# Altium integrated library WE-TFC_rev15a.intlib: 7 symbols
Pins are listed as number, name and electrical type; pins without a type are passive.

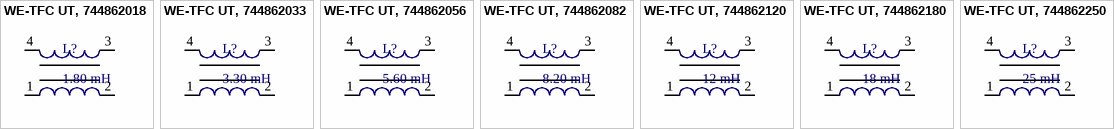
[diagram p0: symbols WE-TFC UT, 744862018 to WE-TFC UT, 744862250]

## WE-TFC UT, 744862018
designator L?, comment 1.80 mH
PTH-Common Mode Power Line Choke WE-TFC, L=1.8 mH; partNo: 744862018; Manufacturer: Würth Elektronik eiSos GmbH; Inductance: 1.80 mH; ComponentLink1Description: Manufacturer; ComponentLink1URL: http://www.we-online.de; Created by: Christin Zierenner; Created Date: March 2012; ComponentLink2Description: Datasheet; ComponentLink2URL: http://www.we-online.de/katalog/media/pdf/744862018.pdf
footprint WE-TFC (PTH Inductor, 4-Leads, Body 17x11mm)
pins: 1, 2, 3, 4

## WE-TFC UT, 744862033
designator L?, comment 3.30 mH
PTH-Common Mode Power Line Choke WE-TFC, L=3.30 mH; partNo: 744862033; Manufacturer: Würth Elektronik eiSos GmbH; Inductance: 3.30 mH; ComponentLink1Description: Manufacturer; ComponentLink1URL: http://www.we-online.de; Created by: Christin Zierenner; Created Date: March 2012; ComponentLink2Description: Datasheet; ComponentLink2URL: http://www.we-online.de/katalog/media/pdf/744862033.pdf
footprint WE-TFC (PTH Inductor, 4-Leads, Body 17x11mm)
pins: 1, 2, 3, 4

## WE-TFC UT, 744862056
designator L?, comment 5.60 mH
PTH-Common Mode Power Line Choke WE-TFC, L=5.60 mH; partNo: 744862056; Manufacturer: Würth Elektronik eiSos GmbH; Inductance: 5.60 mH; ComponentLink1Description: Manufacturer; ComponentLink1URL: http://www.we-online.de; Created by: Christin Zierenner; Created Date: March 2012; ComponentLink2Description: Datasheet; ComponentLink2URL: http://www.we-online.de/katalog/media/pdf/744862056.pdf
footprint WE-TFC (PTH Inductor, 4-Leads, Body 17x11mm)
pins: 1, 2, 3, 4

## WE-TFC UT, 744862082
designator L?, comment 8.20 mH
PTH-Common Mode Power Line Choke WE-TFC, L=8.20 mH; partNo: 744862082; Manufacturer: Würth Elektronik eiSos GmbH; Inductance: 8.20 mH; ComponentLink1Description: Manufacturer; ComponentLink1URL: http://www.we-online.de; Created by: Christin Zierenner; Created Date: March 2012; ComponentLink2Description: Datasheet; ComponentLink2URL: http://www.we-online.de/katalog/media/pdf/744862082.pdf
footprint WE-TFC (PTH Inductor, 4-Leads, Body 17x11mm)
pins: 1, 2, 3, 4

## WE-TFC UT, 744862120
designator L?, comment 12 mH
PTH-Common Mode Power Line Choke WE-TFC, L=12 mH; partNo: 744862120; Manufacturer: Würth Elektronik eiSos GmbH; Inductance: 12 mH; ComponentLink1Description: Manufacturer; ComponentLink1URL: http://www.we-online.de; Created by: Christin Zierenner; Created Date: March 2012; ComponentLink2Description: Datasheet; ComponentLink2URL: http://www.we-online.de/katalog/media/pdf/744862120.pdf
footprint WE-TFC (PTH Inductor, 4-Leads, Body 17x11mm)
pins: 1, 2, 3, 4

## WE-TFC UT, 744862180
designator L?, comment 18 mH
PTH-Common Mode Power Line Choke WE-TFC, L=18 mH; partNo: 744862180; Manufacturer: Würth Elektronik eiSos GmbH; Inductance: 18 mH; ComponentLink1Description: Manufacturer; ComponentLink1URL: http://www.we-online.de; Created by: Christin Zierenner; Created Date: March 2012; ComponentLink2Description: Datasheet; ComponentLink2URL: http://www.we-online.de/katalog/media/pdf/744862180.pdf
footprint WE-TFC (PTH Inductor, 4-Leads, Body 17x11mm)
pins: 1, 2, 3, 4

## WE-TFC UT, 744862250
designator L?, comment 25 mH
PTH-Common Mode Power Line Choke WE-TFC, L=25 mH; partNo: 744862250; Manufacturer: Würth Elektronik eiSos GmbH; Inductance: 25 mH; ComponentLink1Description: Manufacturer; ComponentLink1URL: http://www.we-online.de; Created by: Christin Zierenner; Created Date: March 2012; ComponentLink2Description: Datasheet; ComponentLink2URL: http://www.we-online.de/katalog/media/pdf/744862250.pdf
footprint WE-TFC (PTH Inductor, 4-Leads, Body 17x11mm)
pins: 1, 2, 3, 4